# Altium schematic symbol library Schlib1.SchLib: 1 symbol
Pins are listed as number, name and electrical type; pins without a type are passive.

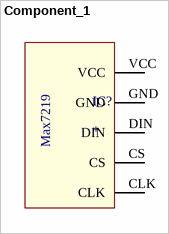
[diagram p0: symbol Component_1]

## Component_1
designator IC?
Max 7219 7 segment
footprint PCBComponent_1
pins: CLK, CS, DIN, GND, VCC
text: Max7219